# Altium schematic symbol library 87833-1220.SchLib: 1 symbol
Pins are listed as number, name and electrical type; pins without a type are passive.

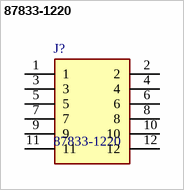
[diagram p0: symbol 87833-1220]

## 87833-1220
designator J?
MOLEX - 87833-1220 - HEADER, MILLI-GRID, 2MM, THD, R/A, 12WAY; Geometry.Height: 6.3mm; Manufacturer_Name: Molex; Manufacturer_Part_Number: 87833-1220; Mouser Part Number: 538-87833-1220; Mouser Price/Stock: https://www.mouser.co.uk/ProductDetail/Molex/87833-1220?qs=%252Bv5WsHscnfddNjhKFKm4rw%3D%3D; Arrow Part Number: *; Arrow Price/Stock: *; Datasheet Link: https://www.molex.com/pdm_docs/sd/878331220_sd.pdf
footprint SHDRRA12W55P200_2X6_1465X640X630P
pins: 1, 2, 3, 4, 5, 6, 7, 8, 9, 10, 11, 12